# EAGLE library part SN74LVC04ADR (library SN74LVC04ADR)
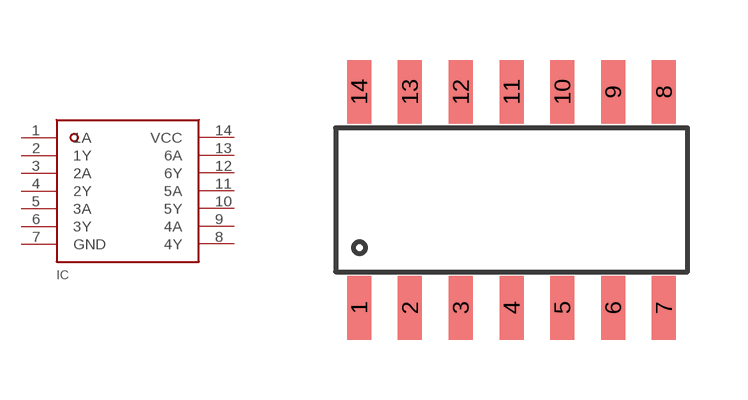
[diagram p0: symbol with the pads of R-PDSO-G14; footprint R-PDSO-G14]

Designator prefix IC

## SN74LVC04ADRR-PDSO-G14  [R-PDSO-G14]
1  1A
2  1Y
3  2A
4  2Y
5  3A
6  3Y
7  GND
8  4Y
9  4A
10  5Y
11  5A
12  6Y
13  6A
14  VCC

## Footprint R-PDSO-G14 (pad centres in mm)
smd 0.6 x 1.6: 1 -3.81,-2.7; 2 -2.54,-2.7; 3 -1.27,-2.7; 4 0,-2.7; 5 1.27,-2.7; 6 2.54,-2.7; 7 3.81,-2.7; 8 3.81,2.7; 9 2.54,2.7; 10 1.27,2.7; 11 0,2.7; 12 -1.27,2.7; 13 -2.54,2.7; 14 -3.81,2.7